# Altium schematic symbol library Base.SchLib: 19 symbols
Pins are listed as number, name and electrical type; pins without a type are passive.

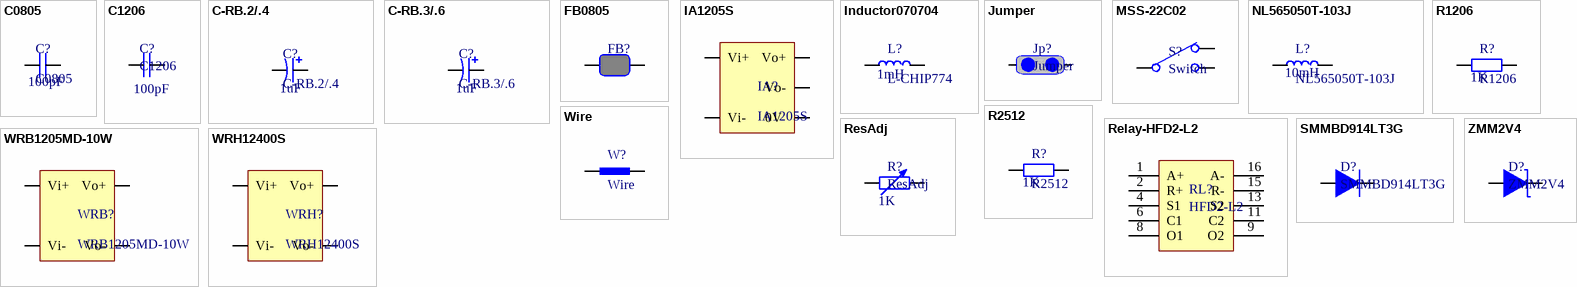
[diagram p0: symbols C0805 to ZMM2V4]

## C0805
designator C?  value 100pF
Capacitor, 0805
footprint 0805
pins: 1 a, 2 b

## C1206
designator C?  value 100pF
Capacitor, 1206
footprint 1206
pins: 1 a, 2 b

## C-RB.2/.4
designator C?  value 1uF
Capacitor
footprint RB.2/.4
pins: 1 a, 2 b

## C-RB.3/.6
designator C?  value 1uF
Capacitor
footprint RB.3/.6
pins: 1 a, 2 b

## FB0805
designator FB?  (value not drawn)
Chip Bead, 0805
footprint 0805
pins: 1 a, 2 b

## IA1205S
designator IA?
IA1205S,12V to +5V,-5V
footprint IA1205S
pins: 1 Vi+ "Action +", 2 Vi- "Reset +", 7 Vo+ "Standard 1", 9 Vo- "Normal Closed 1", 10 0V  "Normal Opend 1"

## Inductor070704
designator L?, comment L-CHIP774  value 1mH
Chip Inductor, 7*7*4
footprint INDUCTOR070704
pins: 1, 2

## Jumper
designator Jp?
footprint JUMPER
pins: 1 a, 2 b

## MSS-22C02
designator S?, comment Switch
Duble Switch
footprint MSS-22C02
pins: a, b, c

## NL565050T-103J
designator L?  value 10mH
NL565050T, 10mH, 150 ohm
footprint NL565050T
pins: 1, 2

## R1206
designator R?  value 1K
Resistor, 1206, 1/4W
simulation model RESISTOR (Resistor)
footprint 1206
pins: 1 a, 2 b

## R2512
designator R?  value 1K
Resistor, 2512, 1W
footprint 2512
simulation model RESISTOR (Resistor)
pins: 1 a, 2 b

## Relay-HFD2-L2
designator RL?, comment HFD2-L2
Relay, HFD2-XX-XX-L2-XX
footprint RELAY-HFD2-L2
pins: 1 A+ "Action +", 2 R+ "Reset +", 4 S1 "Standard 1", 6 C1 "Normal Closed 1", 8 O1 "Normal Opend 1", 9 O2 "Normal Opend 2", 11 C2 "Normal Closed 2", 13 S2 "Standard 2", 15 R- "Reset -", 16 A- "Action -"

## ResAdj
designator R?  value 1K
Adjustable Resistor
footprint Adjust Resistor (3 * 3)
pins: a, b

## SMMBD914LT3G
designator D?
Switching Diode
footprint SMMBD914LT3G
pins: 1 a, 3 c

## Wire
designator W?
footprint WIRE
pins: 1 a, 2 b

## WRB1205MD-10W
designator WRB?
WRB1205MD-10W,12V-5V
footprint WRB1205MD-10W
pins: 1 Vi+ "Action +", 2 Vi- "Reset +", 3 Vo+ "Standard 1", 5 Vo- "Normal Closed 1"

## WRH12400S
designator WRH?
WRH12400S,12V-400V
footprint WRH12400S
pins: 1 Vi+ "Action +", 2 Vi- "Reset +", 3 Vo+ "Standard 1", 5 Vo- "Normal Closed 1"

## ZMM2V4
designator D?
Voltage Stabilizing Diode, 2.4V
footprint DIODE1206
pins: 1 a, 2 b